# Altium footprint library FP-1042P-MFG.PcbLib: 1 footprints
Each footprint in its own frame and in the unit in brackets; x right, y up, seen from the top. Pads: shape width x height; smd on the part's side, far side on the other; paste and mask are expansions set on the pad; w line width, h text height; cw(c..) or ccw(c..) is an arc to the next point about the centre after c.
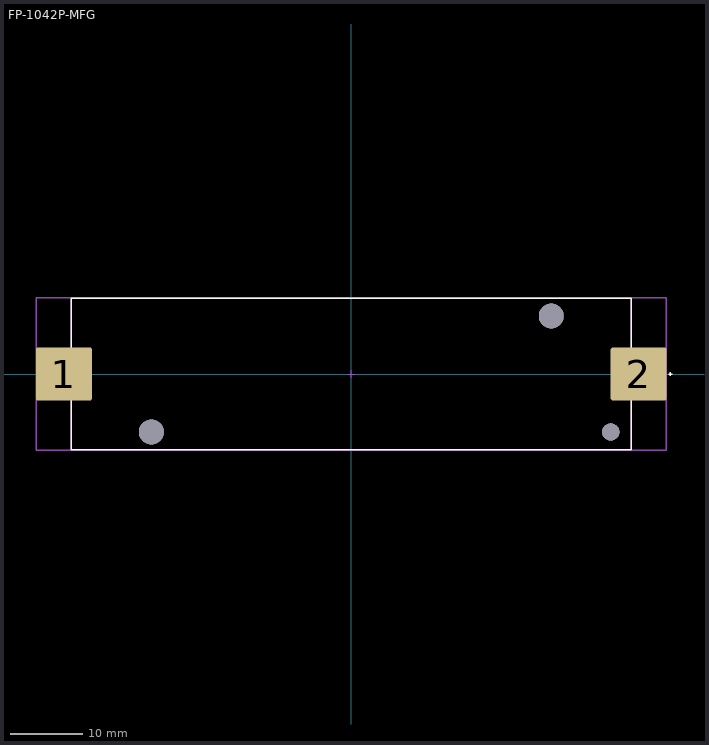
[diagram p0: the footprint, top view; thin cyan lines are the x and y axes]

## FP-1042P-MFG [mm]
pads (5):
  rrect10% 7.77x7.35 smd paste+0 mask+0: 1(-39.688,0) 2(39.688,0)
  round 3.45 hole 3.45 unplated paste-1000 mask+0: ""(-27.622,-8.001) ""(27.622,8.001)
  round 2.4 hole 2.388 unplated paste-1000 mask+0: ""(35.84,-8.001)
Top Overlay:
  lines w0.2: -38.659,-3.61 -38.659,-10.452 38.659,-10.452 38.659,-3.61 ; -38.659,3.61 -38.659,10.452 38.659,10.452 38.659,3.61 ; 43.825,0 44.325,0 ; 44.075,-0.25 44.075,0.25
Top 3D Body:
  lines w0.2: -38.659,-10.452 38.659,-10.452 38.659,10.452 -38.659,10.452 -38.659,-10.452
Top Courtyard:
  lines w0.2: -43.521,-10.552 43.521,-10.552 43.521,10.552 -43.521,10.552 -43.521,-10.552
Top Assembly:
  lines w0.2: -43.521,-10.552 43.521,-10.552 43.521,10.552 -43.521,10.552 -43.521,-10.552
  text ".Designator" at 0,0 h1
Top Component Center:
  lines w0.1: -0.5,0 0.5,0 ; 0,-0.5 0,0.5
3D body "Batt_Keystone_1042P_eec.STEP": height 15.11, standoff -3.43, extent -43.002,-10.326 43.002,10.325